# EAGLE library part PS2801C-4 (library opto-iso)
OPTOISO 2.5KV 4CH TRANS
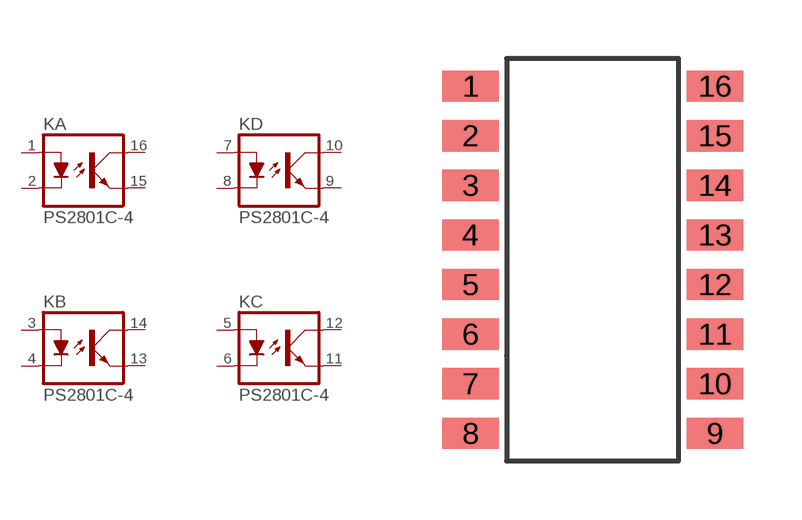
[diagram p0: symbol with the pads of 16SSOP; footprint 16SSOP]

Designator prefix K; gates A=PS2801C-1-F3-ACT-ND B=PS2801C-1-F3-ACT-ND C=PS2801C-1-F3-ACT-ND D=PS2801C-1-F3-ACT-ND

## PS2801C-4 (DIGIKEY: PS2801C-4-F3-ACT-ND; MFR: CEL; MPN: PS2801C-4-F3-A; P1I: o)  [16SSOP]
1  A:AN
2  A:CAT
3  B:AN
4  B:CAT
5  C:AN
6  C:CAT
7  D:AN
8  D:CAT
9  D:EM
10  D:COL
11  C:EM
12  C:COL
13  B:EM
14  B:COL
15  A:EM
16  A:COL

## Footprint 16SSOP (pad centres in mm)
smd 1.45 x 0.8: 1 -3.125,4.445; 2 -3.125,3.175; 3 -3.125,1.905; 4 -3.125,0.635; 5 -3.125,-0.635; 6 -3.125,-1.905; 7 -3.125,-3.175; 8 -3.125,-4.445; 9 3.125,-4.445; 10 3.125,-3.175; 11 3.125,-1.905; 12 3.125,-0.635; 13 3.125,0.635; 14 3.125,1.905; 15 3.125,3.175; 16 3.125,4.445